# Altium footprint library 1053122110.PcbLib: 1 footprints
Each footprint in its own frame and in the unit in brackets; x right, y up, seen from the top. Pads: shape width x height; smd on the part's side, far side on the other; paste and mask are expansions set on the pad; w line width, h text height; cw(c..) or ccw(c..) is an arc to the next point about the centre after c.
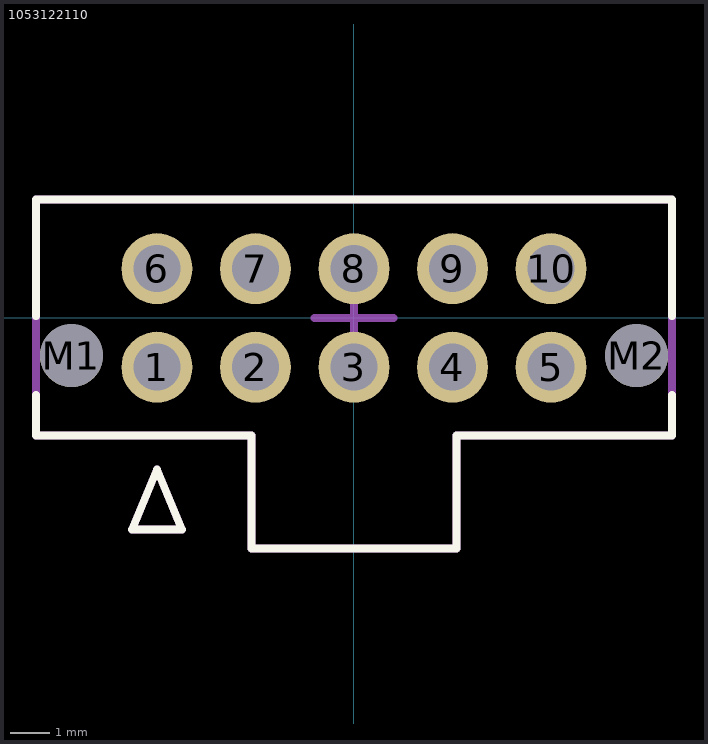
[diagram p0: the footprint, top view; thin cyan lines are the x and y axes]

## 1053122110 [mm]
pads (12):
  round 1.8 hole 1.2 paste-2539.97 mask+0.051: 1(-5,-1.25) 2(-2.5,-1.25) 3(0,-1.25) 4(2.5,-1.25) 5(5,-1.25) 6(-5,1.25) 7(-2.5,1.25) 8(0,1.25) 9(2.5,1.25) 10(5,1.25)
  round 1.6 hole 1.6 paste-2539.97 mask+0: M1(-7.17,-0.96) M2(7.17,-0.96)
Top Overlay:
  lines w0.2: -8.075,-1.96 -8.075,-2.99 -2.6,-2.99 ; -8.075,0.04 -8.075,3 8.075,3 8.075,0.04 ; -2.6,-3 -2.6,-5.85 2.6,-5.85 2.6,-3 ; 2.6,-2.99 8.07,-2.99 8.07,-1.96 ; -5.635,-5.374 -4.365,-5.374 -5,-3.85 -5.635,-5.374
Top Designator:
  text ".Designator" at -7.617,-1.933 h1.52
3D Body:
  lines w0.2: -8.075,-2.99 -5.46,-2.99 -2.6,-2.99 -2.6,-5.85 2.6,-5.85 2.6,-2.985 6.195,-2.985 8.075,-2.985 8.075,2.975 8.05,3 -8.075,3 -8.075,-2.99 ; -5.635,-5.374 -4.365,-5.374 -5,-3.85 -5.635,-5.374
Center Cross:
  lines w0.2: -1,0 0,0 ; 0,-1 0,0 ; 0,1 0,0 ; 1,0 0,0
3D body "1053122110.stp": height 9.92, standoff -3.79, extent -8.08,-5.85 8.08,2.99